# Altium schematic symbol library Schlib1.SchLib: 3 symbols
Pins are listed as number, name and electrical type; pins without a type are passive.

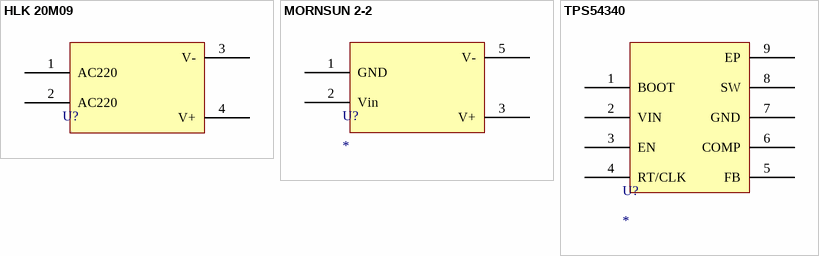
[diagram p0: symbols HLK 20M09 to TPS54340]

## HLK 20M09
designator U?  (value not drawn)
footprint HLK 20M09
pins: 1 AC220, 2 AC220, 3 V-, 4 V+

## MORNSUN 2-2
designator U?
footprint MORNSUN 2-2
pins: 1 GND, 2 Vin, 3 V+, 5 V-

## TPS54340
designator U?
footprint ESOP - 8
pins: 1 BOOT, 2 VIN, 3 EN, 4 RT/CLK, 5 FB, 6 COMP, 7 GND, 8 SW, 9 EP